# EAGLE library part MAG3110 (library everykey)
NXP/Freescale 3-axis magnetometer, I2C interface
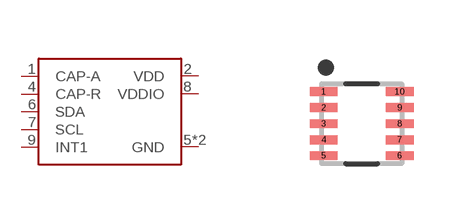
[diagram p91: symbol with the pads of DFN10-0.4; footprint DFN10-0.4]

Designator prefix -

## MAG3110  [DFN10-0.4]
1  CAP-A
2  VDD  pwr
4  CAP-R
5  GND  pwr
6  SDA
7  SCL
8  VDDIO  pwr
9  INT1
10  GND  pwr

## Footprint DFN10-0.4 (pad centres in mm)
10-pin DFN package, 0.4mm pitch. Pads slightly extended outwards for better manual soldering.
smd 0.7 x 0.225: 1 -0.95,0.8; 2 -0.95,0.4; 3 -0.95,0; 4 -0.95,-0.4; 5 -0.95,-0.8; 6 0.95,-0.8; 7 0.95,-0.4; 8 0.95,0; 9 0.95,0.4; 10 0.95,0.8